# Altium footprint library Controllers.PcbLib: 1 footprints
Each footprint in its own frame and in the unit in brackets; x right, y up, seen from the top. Pads: shape width x height; smd on the part's side, far side on the other; paste and mask are expansions set on the pad; w line width, h text height; cw(c..) or ccw(c..) is an arc to the next point about the centre after c.
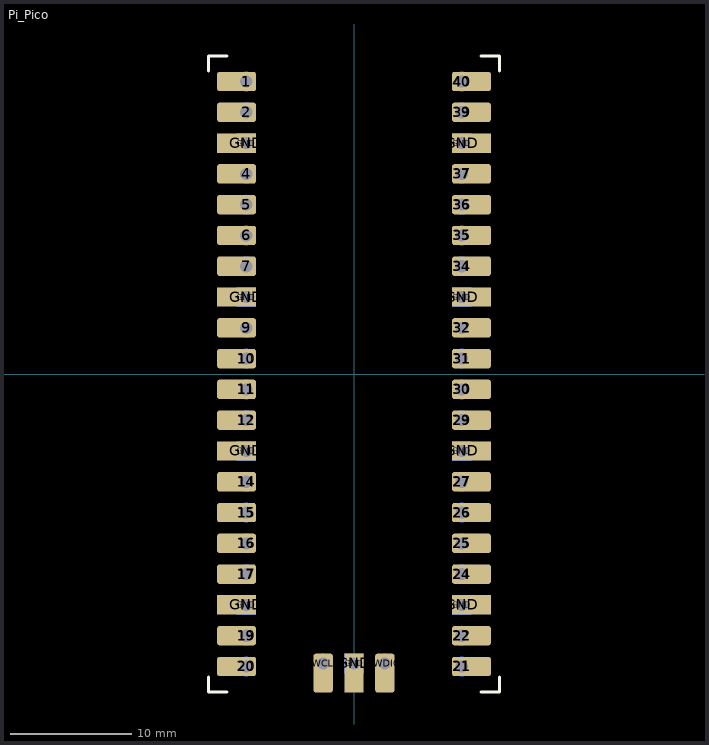
[diagram p0: the footprint, top view; thin cyan lines are the x and y axes]

## Pi_Pico [mm]
pads (86):
  rrect25% 3.2x1.6 / inner rrect25% 3.2x1.6 / far side rrect25% 0x0 hole 1 copper offset -0.8,0: 1(-8.89,24.13) 2(-8.89,21.59) 4(-8.89,16.51) 5(-8.89,13.97) 6(-8.89,11.43) 7(-8.89,8.89) 9(-8.89,3.81) 10(-8.89,1.27) 11(-8.89,-1.27) 12(-8.89,-3.81) 14(-8.89,-8.89) 15(-8.89,-11.43) 16(-8.89,-13.97) 17(-8.89,-16.51) 19(-8.89,-21.59) 20(-8.89,-24.13)
  round 1.6 smd far side: 1(-8.89,24.13) 2(-8.89,21.59) 4(-8.89,16.51) 5(-8.89,13.97) 6(-8.89,11.43) 7(-8.89,8.89) 9(-8.89,3.81) 10(-8.89,1.27) 11(-8.89,-1.27) 12(-8.89,-3.81) 14(-8.89,-8.89) 15(-8.89,-11.43) 16(-8.89,-13.97) 17(-8.89,-16.51) 19(-8.89,-21.59) 20(-8.89,-24.13) 21(8.89,-24.13) 22(8.89,-21.59) 24(8.89,-16.51) 25(8.89,-13.97) 26(8.89,-11.43) 27(8.89,-8.89) 29(8.89,-3.81) 30(8.89,-1.27) 31(8.89,1.27) 32(8.89,3.81) 34(8.89,8.89) 35(8.89,11.43) 36(8.89,13.97) 37(8.89,16.51) 39(8.89,21.59) 40(8.89,24.13) SWCLK(-2.54,-23.876) SWDIO(2.54,-23.876)
  rrect25% 3.2x1.6 / inner rrect25% 3.2x1.6 / far side rrect25% 0x0 hole 1 copper offset 0.8,0: 21(8.89,-24.13) 22(8.89,-21.59) 24(8.89,-16.51) 25(8.89,-13.97) 26(8.89,-11.43) 27(8.89,-8.89) 29(8.89,-3.81) 30(8.89,-1.27) 31(8.89,1.27) 32(8.89,3.81) 34(8.89,8.89) 35(8.89,11.43) 36(8.89,13.97) 37(8.89,16.51) 39(8.89,21.59) 40(8.89,24.13)
  rect 3.2x1.6 / inner rrect25% 3.2x1.6 / far side rrect25% 0x0 hole 1 copper offset -0.8,0: GND(-8.89,-19.05) GND(-8.89,-6.35) GND(-8.89,6.35) GND(-8.89,19.05)
  rect 1.6x1.6 smd far side: GND(-8.89,-19.05) GND(-8.89,-6.35) GND(-8.89,6.35) GND(-8.89,19.05) GND(0,-23.876) GND(8.89,-19.05) GND(8.89,-6.35) GND(8.89,6.35) GND(8.89,19.05)
  rect 1.6x3.2 / inner rrect25% 1.6x3.2 / far side rrect25% 0x0 hole 1 copper offset 0,-0.8: GND(0,-23.876)
  rect 3.2x1.6 / inner rrect25% 3.2x1.6 / far side rrect25% 0x0 hole 1 copper offset 0.8,0: GND(8.89,-19.05) GND(8.89,-6.35) GND(8.89,6.35) GND(8.89,19.05)
  rrect25% 1.6x3.2 / inner rrect25% 1.6x3.2 / far side rrect25% 0x0 hole 1 copper offset 0,-0.8: SWCLK(-2.54,-23.876) SWDIO(2.54,-23.876)
Top Overlay:
  lines w0.254: -12,-25 -12,-26.25 -10.5,-26.25 ; -12,25 -12,26.25 -10.5,26.25 ; 10.5,-26.25 12,-26.25 12,-25 ; 10.5,26.25 12,26.25 12,25
3D body "RaspBerryPi Pico.step": height 4.3, standoff 0, extent -10.5,-25.5 10.5,26.602